# EAGLE library part MAX3232 (library aggiunte)
MAX3232 3.3v rs232 transceiver @ 5v supply
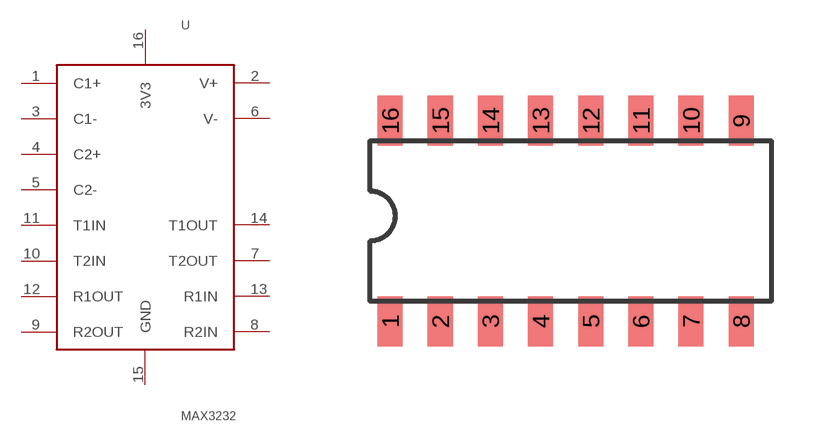
[diagram p7: symbol with the pads of MAX3232; footprint MAX3232]

Designator prefix -

## MAX3232  [MAX3232]
1  C1+  pas
2  V+  pas
3  C1-  pas
4  C2+  pas
5  C2-  pas
6  V-  pas
7  T2OUT  out
8  R2IN  in
9  R2OUT  out
10  T2IN  in
11  T1IN  in
12  R1OUT  out
13  R1IN  in
14  T1OUT  out
15  GND  pwr
16  3V3  pwr

## Footprint MAX3232 (pad centres in mm)
smd 0.635 x 1.27: 1 0,-2.54; 2 1.27,-2.54; 3 2.54,-2.54; 4 3.81,-2.54; 5 5.08,-2.54; 6 6.35,-2.54; 7 7.62,-2.54; 8 8.89,-2.54; 9 8.89,2.54; 10 7.62,2.54; 11 6.35,2.54; 12 5.08,2.54; 13 3.81,2.54; 14 2.54,2.54; 15 1.27,2.54; 16 0,2.54